# Altium footprint library CMA1840.PcbLib: 1 footprints
Each footprint in its own frame and in the unit in brackets; x right, y up, seen from the top. Pads: shape width x height; smd on the part's side, far side on the other; paste and mask are expansions set on the pad; w line width, h text height; cw(c..) or ccw(c..) is an arc to the next point about the centre after c.
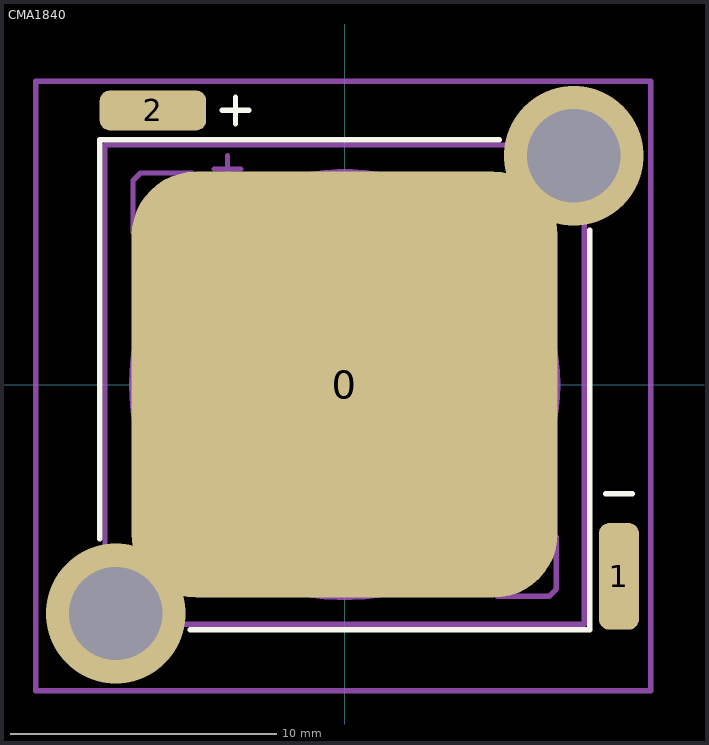
[diagram p0: the footprint, top view; thin cyan lines are the x and y axes]

## CMA1840 [mm]
pads (3):
  rrect30% 16x16 smd mask+0.05: 0(0,0)
  rrect50% 1.5x4 smd mask+0.05: 1(10.3,-7.2)
  rrect50% 4x1.5 smd mask+0.05: 2(-7.2,10.3)
via 8.6,8.6 diameter 5.25 hole 3.5
via -8.6,-8.6 diameter 5.25 hole 3.5
Top Overlay:
  lines w0.2: -9.2,-5.8 -9.2,9.2 5.8,9.2 ; -5.8,-9.2 9.2,-9.2 9.2,5.8 ; -4.6,10.3 -3.6,10.3 ; -4.1,9.8 -4.1,10.8 ; 9.8,-4.1 10.8,-4.1
Top Assembly:
  circle w0.2: c0,0 r7
  circle w0.2: c0,0 r8
  region: 1.2,-2.2
  lines w0.2: -4.9,8.1 -3.9,8.1 ; -4.4,7.6 -4.4,8.6 ; -0.5,0 0.5,0 ; 0,-0.5 0,0.5 ; -9,-7 cw(c-9,-9) -7,-9 9,-9 9,7 cw(c9,9) 7,9 -9,9 -9,-7 ; -7.95,5.725 -7.95,7.668 -7.668,7.95 -5.725,7.95 -5.725,7.575 -7.575,5.725 -7.95,5.725 ; 5.725,-7.95 7.668,-7.95 7.95,-7.668 7.95,-5.725 7.575,-5.725 5.725,-7.575 5.725,-7.95
Top Courtyard:
  lines w0.2: -11.6,-11.5 -11.6,11.4 11.5,11.4 11.5,-11.5 -11.6,-11.5
3D body "CMA1840N.stp": height 1.96, standoff 0.08, extent -8.925,-8.925 8.925,8.925